# EAGLE library part MOD_ENC28J60 (library interfaces)
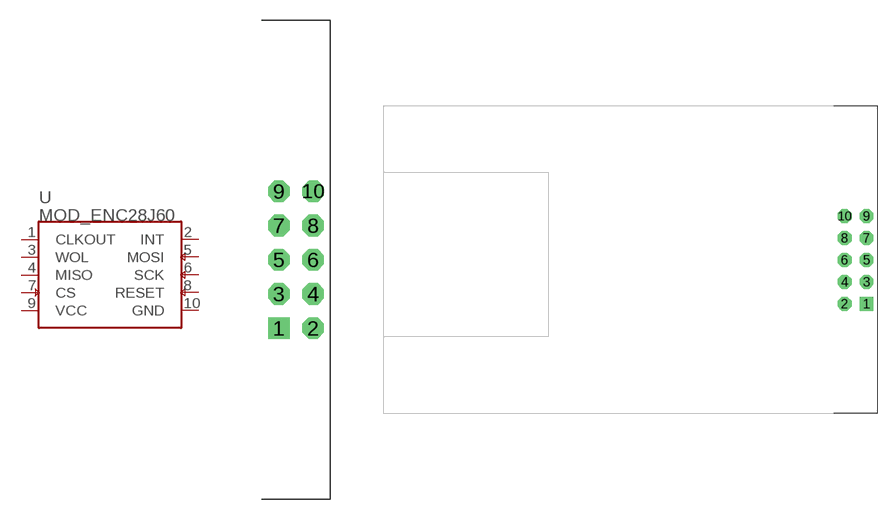
[diagram p10: symbol with the pads of MOD_ENC28J60_RA; footprints MOD_ENC28J60_RA, MOD_ENC28J60]

Designator prefix -

## MOD_ENC28J60RA  [MOD_ENC28J60_RA]
1  CLKOUT  out
2  INT  out
3  WOL  out
4  MISO  out
5  MOSI  in
6  SCK  in
7  CS  in
8  RESET  in
9  VCC  pwr
10  GND  pwr

## MOD_ENC28J60STR  [MOD_ENC28J60]
Pads as for MOD_ENC28J60_RA

## Footprint MOD_ENC28J60_RA (pad centres in mm)
drill 0.9 pad 1.6 square: 1 -1.27,-5.08
drill 0.9 pad 1.6 octagon: 2 1.27,-5.08; 3 -1.27,-2.54; 4 1.27,-2.54; 5 -1.27,0; 6 1.27,0; 7 -1.27,2.54; 8 1.27,2.54; 9 -1.27,5.08; 10 1.27,5.08

## Footprint MOD_ENC28J60 (pad centres in mm)
drill 0.9 pad 1.6 square: 1 1.27,-5.08
drill 0.9 pad 1.6 octagon: 2 -1.27,-5.08; 3 1.27,-2.54; 4 -1.27,-2.54; 5 1.27,0; 6 -1.27,0; 7 1.27,2.54; 8 -1.27,2.54; 9 1.27,5.08; 10 -1.27,5.08